# Altium schematic symbol library 31_lib.SchLib: 30 symbols
Pins are listed as number, name and electrical type; pins without a type are passive.

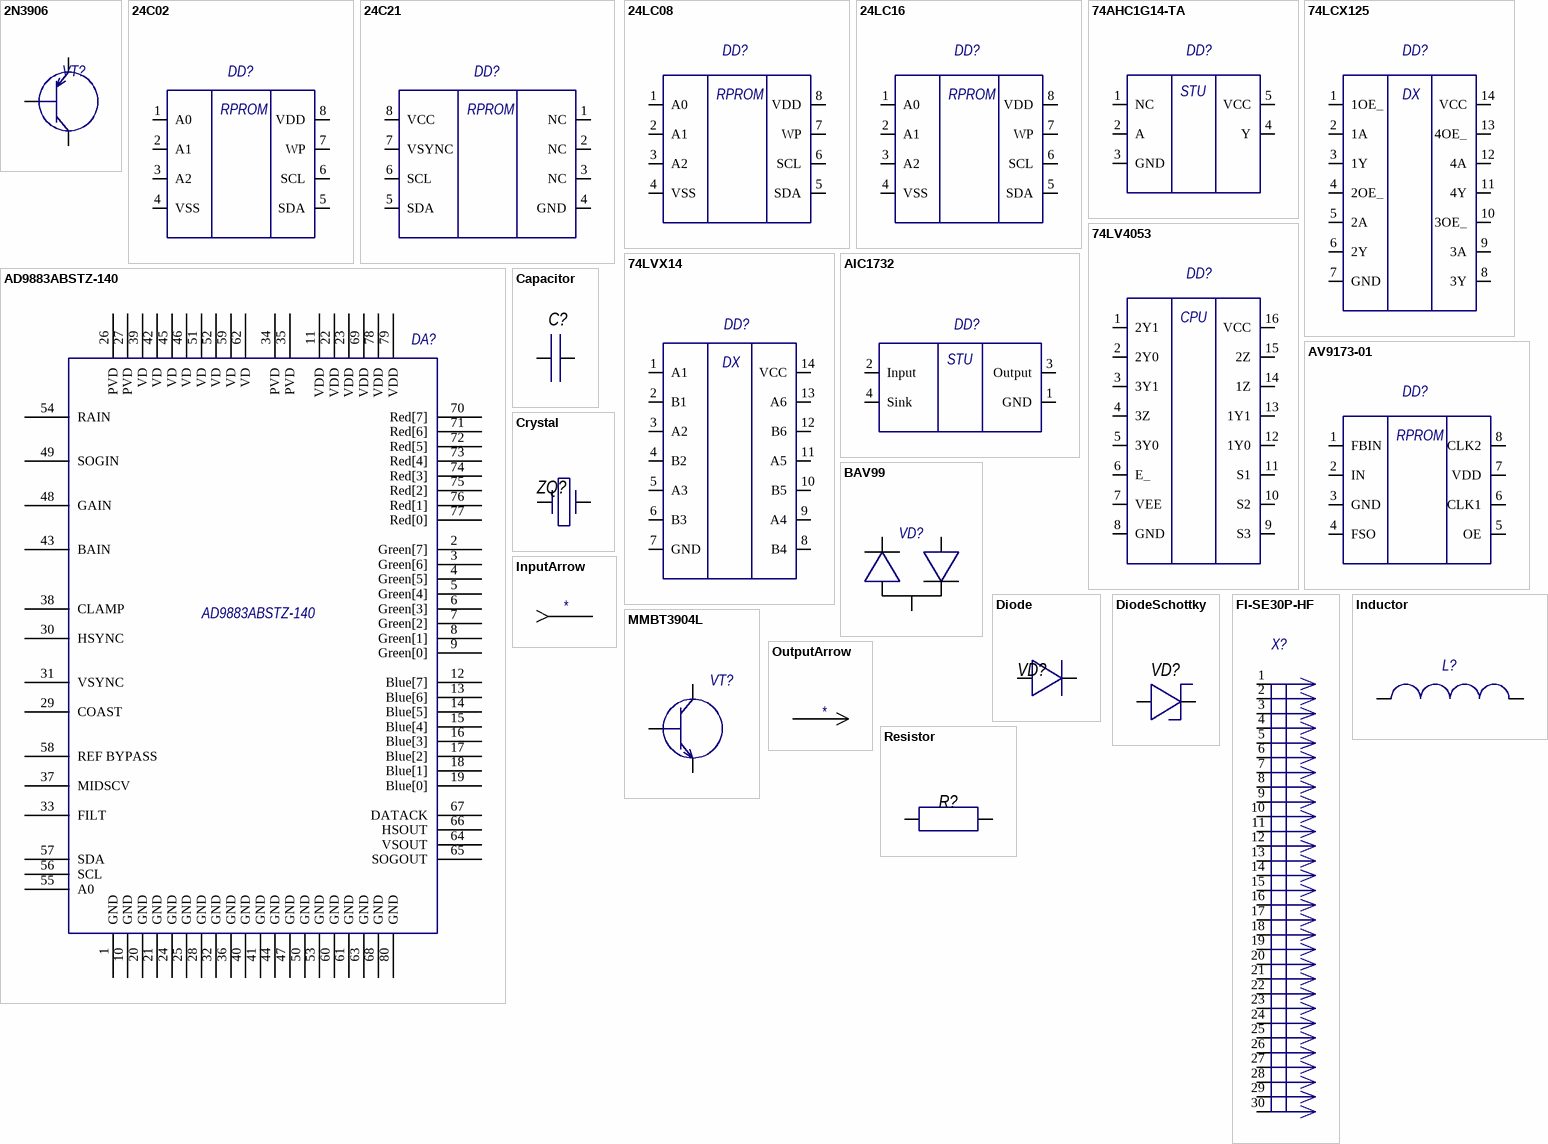
[diagram p0: symbols 2N3906 to Resistor]

## 2N3906
designator VT?  (value not drawn)
footprint 2N3906
pins: 1 Base, 2 Emitter, 3 Collector

## 24C02
designator DD?  (value not drawn)
footprint 24Cxx
pins: 1 A0, 2 A1, 3 A2, 4 VSS, 5 SDA, 6 SCL, 7 WP, 8 VDD
text: RPROM

## 24C21
designator DD?  (value not drawn)
footprint 24Cxx
pins: 1 NC, 2 NC, 3 NC, 4 GND, 5 SDA, 6 SCL, 7 VSYNC, 8 VCC
text: RPROM

## 24LC08
designator DD?  (value not drawn)
footprint 24Cxx
pins: 1 A0, 2 A1, 3 A2, 4 VSS, 5 SDA, 6 SCL, 7 WP, 8 VDD
text: RPROM

## 24LC16
designator DD?  (value not drawn)
footprint 24Cxx
pins: 1 A0, 2 A1, 3 A2, 4 VSS, 5 SDA, 6 SCL, 7 WP, 8 VDD
text: RPROM

## 74AHC1G14-TA
designator DD?, comment F14-SINGLE  (value not drawn)
footprint 74AHC1G14(SOT25)
pins: 1 NC, 2 A, 3 GND, 4 Y, 5 VCC
text: STU

## 74LCX125
designator DD?  (value not drawn)
footprint 74LCX125(page12)
pins: 1 1OE_, 2 1A, 3 1Y, 4 2OE_, 5 2A, 6 2Y, 7 GND, 8 3Y, 9 3A, 10 3OE_, 11 4Y, 12 4A, 13 4OE_, 14 VCC
text: DX

## 74LV4053
designator DD?  (value not drawn)
footprint 74LV4053(SOT38-4)
pins: 1 2Y1, 2 2Y0, 3 3Y1, 4 3Z, 5 3Y0, 6 E_, 7 VEE, 8 GND, 9 S3, 10 S2, 11 S1, 12 1Y0, 13 1Y1, 14 1Z, 15 2Z, 16 VCC
text: CPU

## 74LVX14
designator DD?  (value not drawn)
footprint 74LVX14(SO-14)
pins: 1 A1, 2 B1, 3 A2, 4 B2, 5 A3, 6 B3, 7 GND, 8 B4, 9 A4, 10 B5, 11 A5, 12 B6, 13 A6, 14 VCC
text: DX

## AD9883ABSTZ-140
designator DA?
Built_By: EMA_UL_Team; Vendor: Analog Devices Inc; SourceLibrary: Analog_2012-01-01_6; Manufacturer_Part_Number: AD9883ABSTZ-140; Copyright: Copyright (C) 2018 Accelerated Designs. All rights reserved; RefDes: RefDes; Type: DEV
footprint ST_80_2_ADI
pins: 1 GND, 2 Green[7], 3 Green[6], 4 Green[5], 5 Green[4], 6 Green[3], 7 Green[2], 8 Green[1], 9 Green[0], 10 GND, 11 VDD (power), 12 Blue[7], 13 Blue[6], 14 Blue[5], 15 Blue[4], 16 Blue[3], 17 Blue[2], 18 Blue[1], 19 Blue[0], 20 GND, 21 GND, 22 VDD (power), 23 VDD (power), 24 GND, 25 GND, 26 PVD (power), 27 PVD (power), 28 GND, 29 COAST, 30 HSYNC, 31 VSYNC, 32 GND, 33 FILT, 34 PVD (power), 35 PVD (power), 36 GND, 37 MIDSCV, 38 CLAMP, 39 VD (power), 40 GND, 41 GND, 42 VD (power), 43 BAIN, 44 GND, 45 VD (power), 46 VD (power), 47 GND, 48 GAIN, 49 SOGIN, 50 GND, 51 VD (power), 52 VD (power), 53 GND, 54 RAIN, 55 A0, 56 SCL, 57 SDA, 58 REF BYPASS, 59 VD (power), 60 GND, 61 GND, 62 VD (power), 63 GND, 64 VSOUT, 65 SOGOUT, 66 HSOUT, 67 DATACK, 68 GND, 69 VDD (power), 70 Red[7], 71 Red[6], 72 Red[5], 73 Red[4], 74 Red[3], 75 Red[2], 76 Red[1], 77 Red[0], 78 VDD (power), 79 VDD (power), 80 GND

## AIC1732
designator DD?  (value not drawn)
footprint AIC1732(SOT-89)
pins: 1 GND, 2 Input, 3 Output, 4 Sink
text: STU

## AV9173-01
designator DD?  (value not drawn)
footprint AV9173-01(DIP8)
pins: 1 FBIN, 2 IN, 3 GND, 4 FSO, 5 OE, 6 CLK1, 7 VDD, 8 CLK2
text: RPROM

## BAV99
designator VD?  (value not drawn)
footprint BAV99
pins: 1, 2, 3

## Capacitor
designator C?  (value not drawn)
footprint cap_electro_13
pins: 1, 2

## Crystal
designator ZQ?  (value not drawn)
footprint crystal
pins: 1, 2

## Diode
designator VD?  (value not drawn)
footprint zener_diode
pins: 1, 2

## DiodeSchottky
designator VD?  (value not drawn)
footprint zener_diode
pins: 1, 2

## FI-SE30P-HF
designator X?  (value not drawn)
footprint FI-SE30P-HF_v2
pins: 1 VIN, 2 VIN, 3 VIN, 4 GND, 5 GND, 6 GND, 7 SELLVDS, 8 VcontIN, 9 DGND, 10 RXOIN3+, 11 RXOIN3-, 12 RXOCLKIN+, 13 RXOCLKIN-, 14 RXOIN2+, 15 RXOIN2-, 16 RXOIN1+, 17 RXOIN1-, 18 RXOIN0+, 19 RXOIN0-, 20 RXEIN3+, 21 RXEIN3-, 22 RXECLKIN+, 23 RXECLKIN-, 24 RXEIN2+, 25 RXEIN2-, 26 RXEIN1+, 27 RXEIN1-, 28 RXEIN0+, 29 RXEIN0-, 30 LVDSGND

## Inductor
designator L?  (value not drawn)
footprint inductor
pins: 1, 2

## InputArrow
designator *  (value not drawn)
footprint ARROW
pins: 1

## MMBT3904L
designator VT?  (value not drawn)
footprint MMBT3904L
pins: 1 Base, 2 Emitter, 3 Collector

## OutputArrow
designator *  (value not drawn)
pins: 3

## Resistor
designator R?  (value not drawn)
footprint R_1206
pins: 1, 2

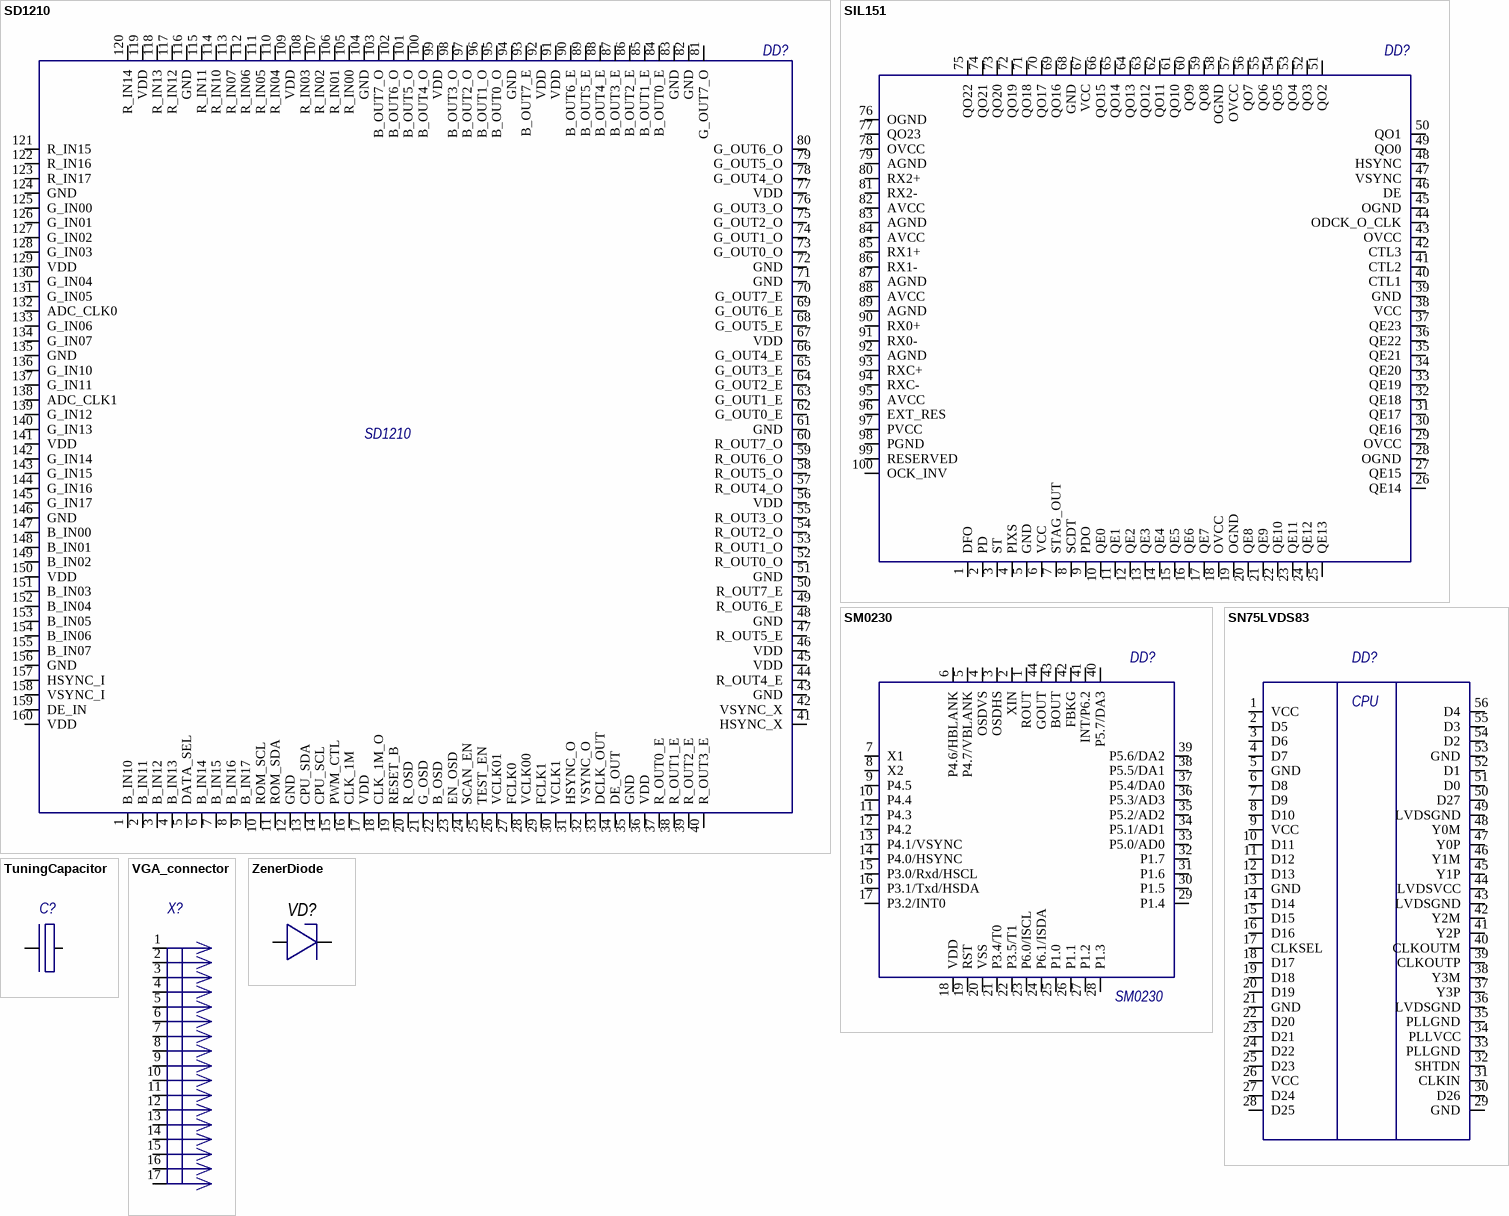
[diagram p1: symbols SD1210 to ZenerDiode]

## SD1210
designator DD?
footprint SD1210
pins: 1 B_IN10, 2 B_IN11, 3 B_IN12, 4 B_IN13, 5 DATA_SEL, 6 B_IN14, 7 B_IN15, 8 B_IN16, 9 B_IN17, 10 ROM_SCL, 11 ROM_SDA, 12 GND, 13 CPU_SDA, 14 CPU_SCL, 15 PWM_CTL, 16 CLK_1M, 17 VDD, 18 CLK_1M_O, 19 RESET_B, 20 R_OSD, 21 G_OSD, 22 B_OSD, 23 EN_OSD, 24 SCAN_EN, 25 TEST_EN, 26 VCLK01, 27 FCLK0, 28 VCLK00, 29 FCLK1, 30 VCLK1, 31 HSYNC_O, 32 VSYNC_O, 33 DCLK_OUT, 34 DE_OUT, 35 GND, 36 VDD, 37 R_OUT0_E, 38 R_OUT1_E, 39 R_OUT2_E, 40 R_OUT3_E, 41 HSYNC_X, 42 VSYNC_X, 43 GND, 44 R_OUT4_E, 45 VDD, 46 VDD, 47 R_OUT5_E, 48 GND, 49 R_OUT6_E, 50 R_OUT7_E, 51 GND, 52 R_OUT0_O, 53 R_OUT1_O, 54 R_OUT2_O, 55 R_OUT3_O, 56 VDD, 57 R_OUT4_O, 58 R_OUT5_O, 59 R_OUT6_O, 60 R_OUT7_O, 61 GND, 62 G_OUT0_E, 63 G_OUT1_E, 64 G_OUT2_E, 65 G_OUT3_E, 66 G_OUT4_E, 67 VDD, 68 G_OUT5_E, 69 G_OUT6_E, 70 G_OUT7_E, 71 GND, 72 GND, 73 G_OUT0_O, 74 G_OUT1_O, 75 G_OUT2_O, 76 G_OUT3_O, 77 VDD, 78 G_OUT4_O, 79 G_OUT5_O, 80 G_OUT6_O, 81 G_OUT7_O, 82 GND, 83 GND, 84 B_OUT0_E, 85 B_OUT1_E, 86 B_OUT2_E, 87 B_OUT3_E, 88 B_OUT4_E, 89 B_OUT5_E, 90 B_OUT6_E, 91 VDD, 92 VDD, 93 B_OUT7_E, 94 GND, 95 B_OUT0_O, 96 B_OUT1_O, 97 B_OUT2_O, 98 B_OUT3_O, 99 VDD, 100 B_OUT4_O, 101 B_OUT5_O, 102 B_OUT6_O, 103 B_OUT7_O, 104 GND, 105 R_IN00, 106 R_IN01, 107 R_IN02, 108 R_IN03, 109 VDD, 110 R_IN04, 111 R_IN05, 112 R_IN06, 113 R_IN07, 114 R_IN10, 115 R_IN11, 116 GND, 117 R_IN12, 118 R_IN13, 119 VDD, 120 R_IN14, 121 R_IN15, 122 R_IN16, 123 R_IN17, 124 GND, 125 G_IN00, 126 G_IN01, 127 G_IN02, 128 G_IN03, 129 VDD, 130 G_IN04, 131 G_IN05, 132 ADC_CLK0, 133 G_IN06, 134 G_IN07, 135 GND, 136 G_IN10, 137 G_IN11, 138 ADC_CLK1, 139 G_IN12, 140 G_IN13, 141 VDD, 142 G_IN14, 143 G_IN15, 144 G_IN16, 145 G_IN17, 146 GND, 147 B_IN00, 148 B_IN01, 149 B_IN02, 150 VDD, 151 B_IN03, 152 B_IN04, 153 B_IN05, 154 B_IN06, 155 B_IN07, 156 GND, 157 HSYNC_I, 158 VSYNC_I, 159 DE_IN, 160 VDD

## SIL151
designator DD?  (value not drawn)
footprint SIL151
pins: 1 DFO, 2 PD, 3 ST, 4 PIXS, 5 GND, 6 VCC, 7 STAG_OUT, 8 SCDT, 9 PDO, 10 QE0, 11 QE1, 12 QE2, 13 QE3, 14 QE4, 15 QE5, 16 QE6, 17 QE7, 18 OVCC, 19 OGND, 20 QE8, 21 QE9, 22 QE10, 23 QE11, 24 QE12, 25 QE13, 26 QE14, 27 QE15, 28 OGND, 29 OVCC, 30 QE16, 31 QE17, 32 QE18, 33 QE19, 34 QE20, 35 QE21, 36 QE22, 37 QE23, 38 VCC, 39 GND, 40 CTL1, 41 CTL2, 42 CTL3, 43 OVCC, 44 ODCK_O_CLK, 45 OGND, 46 DE, 47 VSYNC, 48 HSYNC, 49 QO0, 50 QO1, 51 QO2, 52 QO3, 53 QO4, 54 QO5, 55 QO6, 56 QO7, 57 OVCC, 58 OGND, 59 QO8, 60 QO9, 61 QO10, 62 QO11, 63 QO12, 64 QO13, 65 QO14, 66 QO15, 67 VCC, 68 GND, 69 QO16, 70 QO17, 71 QO18, 72 QO19, 73 QO20, 74 QO21, 75 QO22, 76 OGND, 77 QO23, 78 OVCC, 79 AGND, 80 RX2+, 81 RX2-, 82 AVCC, 83 AGND, 84 AVCC, 85 RX1+, 86 RX1-, 87 AGND, 88 AVCC, 89 AGND, 90 RX0+, 91 RX0-, 92 AGND, 93 RXC+, 94 RXC-, 95 AVCC, 96 EXT_RES, 97 PVCC, 98 PGND, 99 RESERVED, 100 OCK_INV

## SM0230
designator DD?
footprint SM0230
pins: 1 ROUT, 2 XIN, 3 OSDHS, 4 OSDVS, 5 P4.7/VBLANK, 6 P4.6/HBLANK, 7 X1, 8 X2, 9 P4.5, 10 P4.4, 11 P4.3, 12 P4.2, 13 P4.1/VSYNC, 14 P4.0/HSYNC, 15 P3.0/Rxd/HSCL, 16 P3.1/Txd/HSDA, 17 P3.2/INT0, 18 VDD, 19 RST, 20 VSS, 21 P3.4/T0, 22 P3.5/T1, 23 P6.0/ISCL, 24 P6.1/ISDA, 25 P1.0, 26 P1.1, 27 P1.2, 28 P1.3, 29 P1.4, 30 P1.5, 31 P1.6, 32 P1.7, 33 P5.0/AD0, 34 P5.1/AD1, 35 P5.2/AD2, 36 P5.3/AD3, 37 P5.4/DA0, 38 P5.5/DA1, 39 P5.6/DA2, 40 P5.7/DA3, 41 INT/P6.2, 42 FBKG, 43 BOUT, 44 GOUT

## SN75LVDS83
designator DD?  (value not drawn)
footprint SN75LVDS83_v2
pins: 1 VCC, 2 D5, 3 D6, 4 D7, 5 GND, 6 D8, 7 D9, 8 D10, 9 VCC, 10 D11, 11 D12, 12 D13, 13 GND, 14 D14, 15 D15, 16 D16, 17 CLKSEL, 18 D17, 19 D18, 20 D19, 21 GND, 22 D20, 23 D21, 24 D22, 25 D23, 26 VCC, 27 D24, 28 D25 , 29 GND, 30 D26, 31 CLKIN, 32 SHTDN, 33 PLLGND, 34 PLLVCC, 35 PLLGND, 36 LVDSGND, 37 Y3P, 38 Y3M, 39 CLKOUTP, 40 CLKOUTM, 41 Y2P, 42 Y2M, 43 LVDSGND, 44 LVDSVCC, 45 Y1P, 46 Y1M, 47 Y0P, 48 Y0M, 49 LVDSGND, 50 D27, 51 D0, 52 D1, 53 GND, 54 D2, 55 D3, 56 D4
text: CPU

## TuningCapacitor
designator C?  (value not drawn)
footprint Cap_tantal_D
pins: 1, 2

## VGA_connector
designator X?, comment DB-15  (value not drawn)
footprint VGA
pins: 1, 2, 3, 4, 5, 6, 7, 8, 9, 10, 11, 12, 13, 14, 15, 16, 17

## ZenerDiode
designator VD?  (value not drawn)
footprint zener_diode
pins: 1, 2